# EAGLE library part MOSFET-NCHANNEL-PCHANNEL-DUAL (library Skoba)
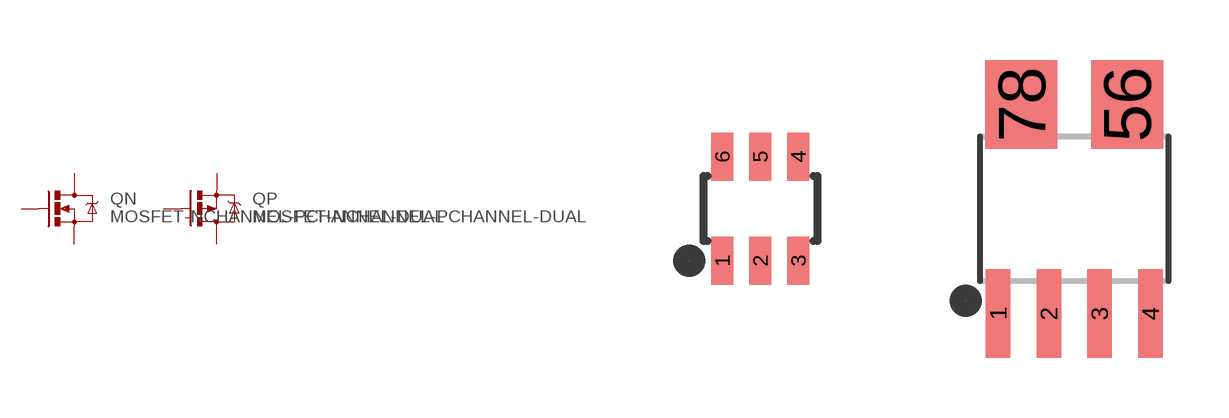
[diagram p27: symbol with the pads of SOT23-6; footprints SOT23-6, SO08-JOINED-2]

Designator prefix Q; gates N=MOSFET-NCHANNEL P=MOSFET-PCHANNEL

## MOSFET-NCHANNEL-PCHANNEL-DUALSOT23-6  [SOT23-6]
1  N:G  pas
2  P:S  pas
3  P:G  pas
4  P:D  pas
5  N:S  pas
6  N:D  pas

## MOSFET-NCHANNEL-PCHANNEL-DUALSO08  [SO08-JOINED-2]
1  N:S  pas
2  N:G  pas
3  P:S  pas
4  P:G  pas
56  P:D  pas
78  N:D  pas

## Footprint SOT23-6 (pad centres in mm)
smd 0.55 x 1.2: 1 -0.95,-1.3; 2 0,-1.3; 3 0.95,-1.3; 4 0.95,1.3; 5 0,1.3; 6 -0.95,1.3

## Footprint SO08-JOINED-2 (pad centres in mm)
smd 0.61 x 2.21: 1 -1.905,-2.616; 2 -0.635,-2.616; 3 0.635,-2.616; 4 1.905,-2.616
smd 1.8 x 2.22: 56 1.32,2.61; 78 -1.32,2.61